# Altium schematic symbol library Senior-Analog-batteryrecharge.SchLib: 21 symbols
Pins are listed as number, name and electrical type; pins without a type are passive.

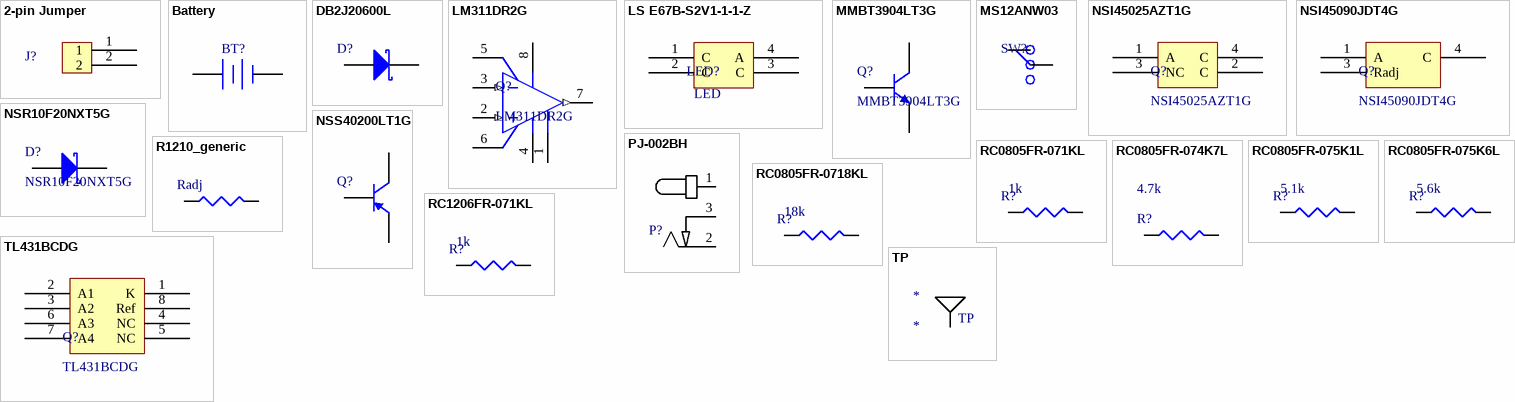
[diagram p0: symbols 2-pin Jumper to TP]

## 2-pin Jumper
designator J?  (value not drawn)
footprint 2-pin-jumper
pins: 1, 2

## Battery
designator BT?
Multicell Battery; Published: 24-Mar-1999; LatestRevisionDate: 17-Jul-2002; LatestRevisionNote: Re-released for DXP Platform.; PackageReference: BAT-2; Publisher: Altium Limited; PackageDescription: Battery; 2 Leads
footprint BAT-2 (Battery; 2 Leads)
pins: 1 +, 2 -

## DB2J20600L
designator D?  (value not drawn)
DIODE SCHOTTKY 20V 1A SMINI2; Manufacturer: Panasonic Electronic Components; Voltage - Forward (Vf) (Max) @ If: 450mV @ 1A; Speed: Fast Recovery =< 500ns, > 200mA (Io); Reverse Recovery Time (trr): 6ns; Current - Reverse Leakage @ Vr: 100µA @ 20V; Capacitance @ Vr, F: 20pF @ 10V, 1MHz; Supplier 1: Digi-Key; Manufacturer Part Number: DB2J20600L; RoHS: RoHS Compliant; Category: Discrete Semiconductor Products; Stock 1: 1938; Pricing 1: 1=0.17, 10=0.145, 25=0.1168, 100=0.0909, 250=0.08828, 500=0.08566, 1000=0.07788 (USD); Packaging: Cut Tape (CT); Diode Type: Schottky; Voltage - DC Reverse (Vr) (Max): 20V; Current - Average Rectified (Io): 1A; Mounting Type: Surface Mount; Package / Case: SC-90, SOD-323F; Supplier Device Package: SMini2-F5-B; Operating Temperature - Junction: 150°C (Max); ComponentLink1URL: http://industrial.panasonic.com/www-cgi/jvcr13pz.cgi?E+SC+4+CDF7001+DB2J206+8+WW; ComponentLink1Description: http://industrial.panasonic.com/www-cgi/jvcr13pz.cgi?E+SC+4+CDF7001+DB2J206+8+WW; Supplier Part Number 1: DB2J20600LCT-ND
footprint SODFL250X70-2N (SODFL, 2-Leads, Body 1.25x2.50mm, IPC Medium Density)
pins: 1 K, 2 A

## LM311DR2G
designator Q?
IC COMPARATOR SGL HI VOLT 8SOIC; Manufacturer: ON Semiconductor; Type: General Purpose; Number of Elements: 1; Output Type: DTL, MOS, Open-Collector, Open-Emitter, RTL, TTL; Voltage - Supply, Single/Dual (±): 5 V ~ 30 V, ±2.5 V ~ 15 V; Voltage - Input Offset (Max): 7.5mV @ ±15V; Current - Input Bias (Max): 0.25µA @ ±15V; Current - Quiescent (Max): 7.5mA; Supplier 1: Digi-Key; Manufacturer Part Number: LM311DR2G; RoHS: RoHS Compliant; Category: Integrated Circuits (ICs); Stock 1: 6693; Pricing 1: 1=0.47, 10=0.401, 100=0.2991, 500=0.23494, 1000=0.18113 (USD); Packaging: Cut Tape (CT); Current - Output (Typ): -; CMRR, PSRR (Typ): -; Propagation Delay (Max): -; Hysteresis: -; Operating Temperature: 0°C ~ 70°C; Package / Case: 8-SOIC (0.154", 3.90mm Width); Mounting Type: Surface Mount; Supplier Device Package: 8-SOIC; ComponentLink1URL: http://www.onsemi.com/pub_link/Collateral/LM211-D.PDF; ComponentLink1Description: http://www.onsemi.com/pub_link/Collateral/LM211-D.PDF; Supplier Part Number 1: LM311DR2GOSCT-ND
footprint SOIC127P600X175-8N (SOIC, 8-Leads, Body 4.90x3.90mm, Pitch 1.27mm, IPC Medium Density)
pins: 1 GND (power), 2 IN- (in), 3 IN+ (in), 4 VEE (power), 5 BAL, 6 BAL, 7 Out (out), 8 VCC (power)

## LS E67B-S2V1-1-1-Z
designator LED?  (value not drawn)
LED RED CLEAR 4PLCC SMD; Manufacturer: OSRAM Opto Semiconductors Inc.; Lens Color: Colorless; Millicandela Rating: 562mcd; Lens Style/Size: Round with Flat Top, 2.40mm; Voltage - Forward (Vf) (Typ): 2.2V; Current - Test: 50mA; Viewing Angle: 120°; Wavelength - Dominant: 633nm; Wavelength - Peak: 645nm; Supplier 1: Digi-Key; Manufacturer Part Number: LS E67B-S2V1-1-1-Z; RoHS: RoHS Compliant; Category: Optoelectronics; Stock 1: 21300; Pricing 1: 1=0.41, 10=0.316, 25=0.2576, 100=0.2048, 250=0.17556, 500=0.15216, 1000=0.11705 (USD); Packaging: Cut Tape (CT); Color: Red; Lens Transparency: Clear; Mounting Type: Surface Mount; Features: -; Package / Case: 4-PLCC; Supplier Device Package: 4-PLCC; Size / Dimension: 3.20mm L x 2.80mm W; Height (Max): 2.10mm; ComponentLink1URL: http://www.osram-os.com/Graphics/XPic8/00090423_0.pdf; ComponentLink1Description: http://www.osram-os.com/Graphics/XPic8/00090423_0.pdf; Supplier Part Number 1: 475-2505-1-ND
footprint OSRAM_LED
pins: 1 C, 2 C, 3 C, 4 A
text: LED

## MMBT3904LT3G
designator Q?
TRANS NPN 40V 0.2A SOT23; Manufacturer: ON Semiconductor; Current - Collector (Ic) (Max): 200mA; Vce Saturation (Max) @ Ib, Ic: 300mV @ 5mA, 50mA; DC Current Gain (hFE) (Min) @ Ic, Vce: 100 @ 10mA, 1V; Power - Max: 300mW; Frequency - Transition: 300MHz; Supplier 1: Digi-Key; Manufacturer Part Number: MMBT3904LT3G; RoHS: RoHS Compliant; Category: Discrete Semiconductor Products; Stock 1: 220109; Pricing 1: 1=0.11, 10=0.097, 100=0.0531, 500=0.03262, 1000=0.02225 (USD); Packaging: Cut Tape (CT); Transistor Type: NPN; Voltage - Collector Emitter Breakdown (Max): 40V; Current - Collector Cutoff (Max): -; Mounting Type: Surface Mount; Package / Case: TO-236-3, SC-59, SOT-23-3; Supplier Device Package: SOT-23-3 (TO-236); ComponentLink1URL: http://www.onsemi.com/pub_link/Collateral/MMBT3904LT1-D.PDF; ComponentLink1Description: http://www.onsemi.com/pub_link/Collateral/MMBT3904LT1-D.PDF; Supplier Part Number 1: MMBT3904LT3GOSCT-ND
footprint SOT95P245X110-3N (SOT23, 3-Leads, Body 2.90x2.45mm, Pitch 0.95mm, IPC Medium Density)
pins: 1 B, 2 E, 3 C

## MS12ANW03
designator SW?  (value not drawn)
SWITCH SLIDE SPDT 6A 125V; Manufacturer: NKK Switches; Contact Timing: Non-Shorting (BBM); Switch Function: On-On; Current Rating: 6A (AC); Actuator Type: Standard; Actuator Length: 5.10mm; Actuator Material: Polybutylene Terephthalate (PBT), Glass Filled; Switch Travel: 2.20mm; Mechanical Life: 100,000 Cycles; Electrical Life: 25,000 Cycles; Supplier 1: Digi-Key; Manufacturer Part Number: MS12ANW03; RoHS: RoHS Compliant; Category: Switches; Stock 1: 1580; Pricing 1: 1=3.41, 10=3.266, 50=2.769, 100=2.698, 250=2.66252, 500=2.201, 1000=2.059, 5000=1.917 (USD); Packaging: Bulk; Circuit: SPDT; Voltage Rating - AC: 125V; Voltage Rating - DC: -; Contact Material: Silver Alloy; Contact Finish: Silver; Mounting Type: Through Hole; Termination Style: PC Pin; Features: Epoxy Sealed Terminals; Operating Temperature: -30°C ~ 85°C; Operating Force: -; ComponentLink1URL: http://www.nkkswitches.com/pdf/MSnonilluminated.pdf; ComponentLink1Description: http://www.nkkswitches.com/pdf/MSnonilluminated.pdf; Supplier Part Number 1: 360-2385-ND
footprint SPDT SWITCH
pins: 1 IN, 2 OUT

## NSI45025AZT1G
designator Q?
IC LED DRIVER LINEAR SOT-223; Manufacturer: ON Semiconductor; Function: Current Regulator; Sensing Method: High/Low-Side; Accuracy: ±10%; Voltage - Input: 45V; Current - Output: 25mA; Supplier 1: Digi-Key; Manufacturer Part Number: NSI45025AZT1G; RoHS: RoHS Compliant; Category: Integrated Circuits (ICs); Stock 1: 8510; Pricing 1: 1=0.6, 10=0.511, 100=0.3815, 500=0.29964 (USD); Packaging: Cut Tape (CT); Operating Temperature: -55°C ~ 150°C; Mounting Type: Surface Mount; Package / Case: TO-261-4, TO-261AA; Supplier Device Package: SOT-223; ComponentLink1URL: http://www.onsemi.com/pub_link/Collateral/NSI45025AZ-D.PDF; ComponentLink1Description: http://www.onsemi.com/pub_link/Collateral/NSI45025AZ-D.PDF; Supplier Part Number 1: NSI45025AZT1GOSCT-ND
footprint SOT230P700X180-4N (SOT223, 4-Leads, Body 6.50x7.00mm (avg), Pitch 2.30mm, IPC Medium Density)
pins: 1 A, 2 C, 3 NC, 4 C

## NSI45090JDT4G
designator Q?
IC LED DRIVER/REG CCR DPAK; Manufacturer: ON Semiconductor; Function: Current Regulator; Sensing Method: High/Low-Side; Accuracy: ±15%; Voltage - Input: 45V; Current - Output: 160mA; Supplier 1: Digi-Key; Manufacturer Part Number: NSI45090JDT4G; RoHS: RoHS Compliant; Category: Integrated Circuits (ICs); Stock 1: 19703; Pricing 1: 1=0.89, 10=0.785, 100=0.6006, 500=0.47586, 1000=0.38115 (USD); Packaging: Cut Tape (CT); Operating Temperature: -55°C ~ 175°C; Mounting Type: Surface Mount; Package / Case: TO-252-3, DPak (2 Leads + Tab), SC-63; Supplier Device Package: DPAK-3; ComponentLink1URL: http://www.onsemi.com/pub_link/Collateral/NSI45090JD-D.PDF; ComponentLink1Description: http://www.onsemi.com/pub_link/Collateral/NSI45090JD-D.PDF; Supplier Part Number 1: NSI45090JDT4GOSCT-ND
footprint DPAK229P991X238-3N (D-PAK, 3-Pads, Body 6.20x6.72mm (max), IPC Medium Density)
pins: 1 A, 3 Radj, 4 C

## NSR10F20NXT5G
designator D?
Schottky Diodes & Rectifiers Schottky Diodes 20V 1A; Manufacturer: ON Semiconductor; Ifsm - Forward Surge Current: 18 A; Ir - Reverse Current: 20 uA; Pd - Power Dissipation: 1.47 W; Vf - Forward Voltage: 430 mV; Supplier 1: Mouser; Manufacturer Part Number: NSR10F20NXT5G; RoHS: RoHS Compliant; Category: Schottky Diodes & Rectifiers; Stock 1: 4780; Pricing 1: 1=0.500, 10=0.332, 100=0.185, 1000=0.135, 5000=0.116, 10000=0.108, 25000=0.099, 50000=0.096, 100000=0.090 (USD); Package / Case: DSN2; Packaging: Reel; Product: Schottky Diodes; Series: NSR10F20NX; Technology: Si; Brand: ON Semiconductor; Mounting Style: SMD/SMT; If - Forward Current: 1 A; Standard Pack Qty: 5000; Vrrm - Repetitive Reverse Voltage: 20 V; RoHS - Mouser: Y; Minimum Order Quantity: 1; Reeling: True; ComponentLink1URL: http://www.mouser.com/ds/2/308/NSR10F20-D-462905.pdf; ComponentLink1Description: http://www.mouser.com/ds/2/308/NSR10F20-D-462905.pdf; Supplier Part Number 1: 863-NSR10F20NXT5G
footprint DFN65P140X31-2N (DFN, 2-Leads, Body 0.60x1.40mm, Pitch 0.65mm, IPC Medium Density)
pins: 1 K, 2 A

## NSS40200LT1G
designator Q?  (value not drawn)
TRANS PNP 40V 2A SOT-23; Manufacturer: ON Semiconductor; Vce Saturation (Max) @ Ib, Ic: 170mV @ 200mA, 2A; Current - Collector Cutoff (Max): 100nA (ICBO); DC Current Gain (hFE) (Min) @ Ic, Vce: 220 @ 500mA, 2V; Power - Max: 460mW; Frequency - Transition: 100MHz; Supplier 1: Digi-Key; Manufacturer Part Number: NSS40200LT1G; RoHS: RoHS Compliant; Category: Discrete Semiconductor Products; Stock 1: 8418; Pricing 1: 1=0.4, 10=0.323, 100=0.2201, 500=0.16474, 1000=0.1234 (USD); Packaging: Cut Tape (CT); Transistor Type: PNP; Current - Collector (Ic) (Max): 2A; Voltage - Collector Emitter Breakdown (Max): 40V; Mounting Type: Surface Mount; Package / Case: TO-236-3, SC-59, SOT-23-3; Supplier Device Package: SOT-23-3 (TO-236); ComponentLink1URL: http://www.onsemi.com/pub_link/Collateral/NSS40200L-D.PDF; ComponentLink1Description: http://www.onsemi.com/pub_link/Collateral/NSS40200L-D.PDF; Supplier Part Number 1: NSS40200LT1GOSCT-ND
footprint SOT95P245X110-3N (SOT23, 3-Leads, Body 2.90x2.45mm, Pitch 0.95mm, IPC Medium Density)
pins: 1 B, 2 E, 3 C

## PJ-002BH
designator P?  (value not drawn)
CONN PWR JACK 2.5X5.5MM HIGH CUR; Manufacturer: CUI Inc.; Gender: Male; Plug/Mating Plug Diameter: 2.5mm ID, 5.5mm OD; Number of Positions/Contacts: 2 Conductors, 3 Contacts; Internal Switch(s): Single Switch, Normally Closed; Shielding: Unshielded; Voltage - Rated: 24VDC; Current Rating: 5A; Supplier 1: Digi-Key; Manufacturer Part Number: PJ-002BH; RoHS: RoHS Compliant; Category: Connectors, Interconnects; Stock 1: 55516; Pricing 1: 1=1.16, 10=0.812, 100=0.5452, 500=0.4408, 1000=0.3944, 2500=0.3132 (USD); Connector Type: Jack; Mounting Type: Through Hole, Right Angle; Termination: Solder Eyelet(s); Features: -; Color: Black; Contact Material: Copper Alloy; Contact Material - Plating: Nickel; Housing Color: Black; Housing Material: Thermoplastic; Operating Temperature: -25°C ~ 85°C; ComponentLink1URL: http://www.cui.com/product/resource/digikeypdf/pj-002bh.pdf; ComponentLink1Description: http://www.cui.com/product/resource/digikeypdf/pj-002bh.pdf; Supplier Part Number 1: CP-002BH-ND
footprint PJ-002BH (2.5 mm Center Pin, 5.0 A, Right Angle, Through Hole, Dc Power Jack Connector)
pins: 1, 2, 3

## R1210_generic
designator Radj  (value not drawn)
footprint R1210 (Chip Resistor, 2-Leads, Body 3.20x2.50mm, IPC Medium Density)
pins: 1, 2

## RC0805FR-071KL
designator R?  Resistance (Ohms): 1k  (hidden comment: RC0805FR-071KL)
RES SMD 1K OHM 1% 1/8W 0805; Manufacturer: Yageo; Power (Watts): 0.125W, 1/8W; Temperature Coefficient: ±100ppm/°C; Supplier 1: Digi-Key; Manufacturer Part Number: RC0805FR-071KL; RoHS: RoHS Compliant; Category: Resistors; Stock 1: 1831476; Pricing 1: 1=0.1, 10=0.021, 25=0.0152, 100=0.0084, 250=0.00644, 500=0.00514, 1000=0.00379, 2500=0.00329 (USD); Packaging: Cut Tape (CT); Tolerance: ±1%; Composition: Thick Film; Features: Moisture Resistant; Operating Temperature: -55°C ~ 155°C; Package / Case: 0805 (2012 Metric); Supplier Device Package: 0805; Size / Dimension: 0.079" L x 0.049" W (2.00mm x 1.25mm); Height: 0.024" (0.60mm); Number of Terminations: 2; ComponentLink1URL: http://www.yageo.com/documents/recent/PYu-RC_Group_51_RoHS_L_04.pdf; ComponentLink1Description: http://www.yageo.com/documents/recent/PYu-RC_Group_51_RoHS_L_04.pdf; Supplier Part Number 1: 311-1.00KCRCT-ND
footprint R0805 (Chip Resistor, 2-Leads, Body 2.00x1.25mm, IPC Medium Density)
pins: 1, 2

## RC0805FR-074K7L
designator R?  Resistance (Ohms): 4.7k  (hidden comment: RC0805FR-074K7L)
RES SMD 4.7K OHM 1% 1/8W 0805; Manufacturer: Yageo; Power (Watts): 0.125W, 1/8W; Temperature Coefficient: ±100ppm/°C; Supplier 1: Digi-Key; Manufacturer Part Number: RC0805FR-074K7L; RoHS: RoHS Compliant; Category: Resistors; Stock 1: 778236; Pricing 1: 1=0.1, 10=0.021, 25=0.0152, 100=0.0084, 250=0.00644, 500=0.00514, 1000=0.00379, 2500=0.00329 (USD); Packaging: Cut Tape (CT); Tolerance: ±1%; Composition: Thick Film; Features: Moisture Resistant; Operating Temperature: -55°C ~ 155°C; Package / Case: 0805 (2012 Metric); Supplier Device Package: 0805; Size / Dimension: 0.079" L x 0.049" W (2.00mm x 1.25mm); Height: 0.024" (0.60mm); Number of Terminations: 2; ComponentLink1URL: http://www.yageo.com/documents/recent/PYu-RC_Group_51_RoHS_L_04.pdf; ComponentLink1Description: http://www.yageo.com/documents/recent/PYu-RC_Group_51_RoHS_L_04.pdf; Supplier Part Number 1: 311-4.70KCRCT-ND
footprint R0805 (Chip Resistor, 2-Leads, Body 2.00x1.25mm, IPC Medium Density)
pins: 1, 2

## RC0805FR-075K1L
designator R?  Resistance (Ohms): 5.1k  (hidden comment: RC0805FR-075K1L)
RES SMD 5.1K OHM 1% 1/8W 0805; Manufacturer: Yageo; Power (Watts): 0.125W, 1/8W; Temperature Coefficient: ±100ppm/°C; Supplier 1: Digi-Key; Manufacturer Part Number: RC0805FR-075K1L; RoHS: RoHS Compliant; Category: Resistors; Stock 1: 110186; Pricing 1: 1=0.1, 10=0.021, 25=0.0152, 100=0.0084, 250=0.00644, 500=0.00514, 1000=0.00379, 2500=0.00329 (USD); Packaging: Cut Tape (CT); Tolerance: ±1%; Composition: Thick Film; Features: Moisture Resistant; Operating Temperature: -55°C ~ 155°C; Package / Case: 0805 (2012 Metric); Supplier Device Package: 0805; Size / Dimension: 0.079" L x 0.049" W (2.00mm x 1.25mm); Height: 0.024" (0.60mm); Number of Terminations: 2; ComponentLink1URL: http://www.yageo.com/documents/recent/PYu-RC_Group_51_RoHS_L_04.pdf; ComponentLink1Description: http://www.yageo.com/documents/recent/PYu-RC_Group_51_RoHS_L_04.pdf; Supplier Part Number 1: 311-5.10KCRCT-ND
footprint R0805 (Chip Resistor, 2-Leads, Body 2.00x1.25mm, IPC Medium Density)
pins: 1, 2

## RC0805FR-075K6L
designator R?  Resistance (Ohms): 5.6k  (hidden comment: RC0805FR-075K6L)
RES SMD 5.6K OHM 1% 1/8W 0805; Manufacturer: Yageo; Power (Watts): 0.125W, 1/8W; Temperature Coefficient: ±100ppm/°C; Supplier 1: Digi-Key; Manufacturer Part Number: RC0805FR-075K6L; RoHS: RoHS Compliant; Category: Resistors; Stock 1: 192512; Pricing 1: 1=0.1, 10=0.021, 25=0.0152, 100=0.0084, 250=0.00644, 500=0.00514, 1000=0.00379, 2500=0.00329 (USD); Packaging: Cut Tape (CT); Tolerance: ±1%; Composition: Thick Film; Features: Moisture Resistant; Operating Temperature: -55°C ~ 155°C; Package / Case: 0805 (2012 Metric); Supplier Device Package: 0805; Size / Dimension: 0.079" L x 0.049" W (2.00mm x 1.25mm); Height: 0.024" (0.60mm); Number of Terminations: 2; ComponentLink1URL: http://www.yageo.com/documents/recent/PYu-RC_Group_51_RoHS_L_04.pdf; ComponentLink1Description: http://www.yageo.com/documents/recent/PYu-RC_Group_51_RoHS_L_04.pdf; Supplier Part Number 1: 311-5.60KCRCT-ND
footprint R0805 (Chip Resistor, 2-Leads, Body 2.00x1.25mm, IPC Medium Density)
pins: 1, 2

## RC0805FR-0718KL
designator R?  Resistance (Ohms): 18k  (hidden comment: RC0805FR-0718KL)
RES SMD 18K OHM 1% 1/8W 0805; Manufacturer: Yageo; Power (Watts): 0.125W, 1/8W; Temperature Coefficient: ±100ppm/°C; Supplier 1: Digi-Key; Manufacturer Part Number: RC0805FR-0718KL; RoHS: RoHS Compliant; Category: Resistors; Stock 1: 83987; Pricing 1: 1=0.1, 10=0.021, 25=0.0152, 100=0.0084, 250=0.00644, 500=0.00514, 1000=0.00379, 2500=0.00329 (USD); Packaging: Cut Tape (CT); Tolerance: ±1%; Composition: Thick Film; Features: Moisture Resistant; Operating Temperature: -55°C ~ 155°C; Package / Case: 0805 (2012 Metric); Supplier Device Package: 0805; Size / Dimension: 0.079" L x 0.049" W (2.00mm x 1.25mm); Height: 0.024" (0.60mm); Number of Terminations: 2; ComponentLink1URL: http://www.yageo.com/documents/recent/PYu-RC_Group_51_RoHS_L_04.pdf; ComponentLink1Description: http://www.yageo.com/documents/recent/PYu-RC_Group_51_RoHS_L_04.pdf; Supplier Part Number 1: 311-18.0KCRCT-ND
footprint R0805 (Chip Resistor, 2-Leads, Body 2.00x1.25mm, IPC Medium Density)
pins: 1, 2

## RC1206FR-071KL
designator R?  Resistance (Ohms): 1k  (hidden comment: RC1206FR-071KL)
RES SMD 1K OHM 1% 1/4W 1206; Manufacturer: Yageo; Power (Watts): 0.25W, 1/4W; Temperature Coefficient: ±100ppm/°C; Supplier 1: Digi-Key; Manufacturer Part Number: RC1206FR-071KL; RoHS: RoHS Compliant; Category: Resistors; Stock 1: 593259; Pricing 1: 1=0.1, 10=0.032, 25=0.0232, 100=0.013, 250=0.00992, 500=0.00792, 1000=0.00583, 2500=0.00506 (USD); Packaging: Cut Tape (CT); Tolerance: ±1%; Composition: Thick Film; Features: Moisture Resistant; Operating Temperature: -55°C ~ 155°C; Package / Case: 1206 (3216 Metric); Supplier Device Package: 1206; Size / Dimension: 0.122" L x 0.063" W (3.10mm x 1.60mm); Height: 0.026" (0.65mm); Number of Terminations: 2; ComponentLink1URL: http://www.yageo.com/documents/recent/PYu-RC_Group_51_RoHS_L_04.pdf; ComponentLink1Description: http://www.yageo.com/documents/recent/PYu-RC_Group_51_RoHS_L_04.pdf; Supplier Part Number 1: 311-1.00KFRCT-ND
footprint R1206 (Chip Resistor, 2-Leads, Body 3.05x1.55mm, IPC Medium Density)
pins: 1, 2

## TL431BCDG
designator Q?
IC VREF SHUNT ADJ 8SOIC; Manufacturer: ON Semiconductor; Output Type: Adjustable; Voltage - Output (Min/Fixed): 2.495V; Voltage - Output (Max): 36V; Current - Output: 100mA; Tolerance: ±0.4%; Temperature Coefficient: 50ppm/°C Typical; Current - Cathode: 1mA; Supplier 1: Digi-Key; Manufacturer Part Number: TL431BCDG; RoHS: RoHS Compliant; Category: Integrated Circuits (ICs); Stock 1: 2292; Pricing 1: 1=0.47, 10=0.403, 100=0.301, 500=0.2365, 1000=0.18275 (USD); Packaging: Tube; Reference Type: Shunt; Noise - 0.1Hz to 10Hz: -; Noise - 10Hz to 10kHz: -; Voltage - Input: -; Current - Supply: -; Operating Temperature: 0°C ~ 70°C (TA); Mounting Type: Surface Mount; Package / Case: 8-SOIC (0.154", 3.90mm Width); Supplier Device Package: 8-SOIC; ComponentLink1URL: http://www.onsemi.com/pub_link/Collateral/TL431-D.PDF; ComponentLink1Description: http://www.onsemi.com/pub_link/Collateral/TL431-D.PDF; Supplier Part Number 1: TL431BCDGOS-ND
footprint SOIC127P600X175-8N (SOIC, 8-Leads, Body 4.90x3.90mm, Pitch 1.27mm, IPC Medium Density)
pins: 1 K, 2 A1, 3 A2, 4 NC, 5 NC, 6 A3, 7 A4, 8 Ref

## TP
designator *
pins: TP